# Altium schematic symbol library SCH - POWER - LINEAR VREG - TI LP2966IMM-1833.SchLib: 1 symbol
Pins are listed as number, name and electrical type; pins without a type are passive.

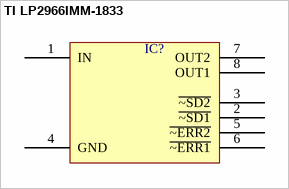
[diagram p0: symbol TI LP2966IMM-1833]

## TI LP2966IMM-1833
designator IC?  (value not drawn)
pins: 1 IN, 2 ~{~SD1}, 3 ~{~SD2}, 4 GND, 5 ~{~ERR2}, 6 ~{~ERR1}, 7 OUT2, 8 OUT1